# EAGLE library part ESDDIODEARRAY_PRTR5V0U2F (library microbuilder)
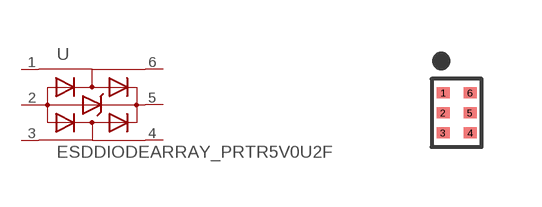
[diagram p208: symbol with the pads of SOT886; footprint SOT886]

Designator prefix U

## ESDDIODEARRAY_PRTR5V0U2F  [SOT886]
1  I/O1_1  pas
2  GND  pas
3  I/O2_1  pas
4  I/O2_2  pas
5  VBUS  pas
6  I/O1_2  pas

## Footprint SOT886 (pad centres in mm)
SOT-886 Source: PRTR5V0U2F
smd 0.325 x 0.27: 1 -0.338,0.5; 2 -0.338,0; 3 -0.338,-0.5; 4 0.338,-0.5; 5 0.338,0; 6 0.338,0.5